# Altium schematic symbol library PoESP_ConnectorBoard.SchLib: 10 symbols
Pins are listed as number, name and electrical type; pins without a type are passive.

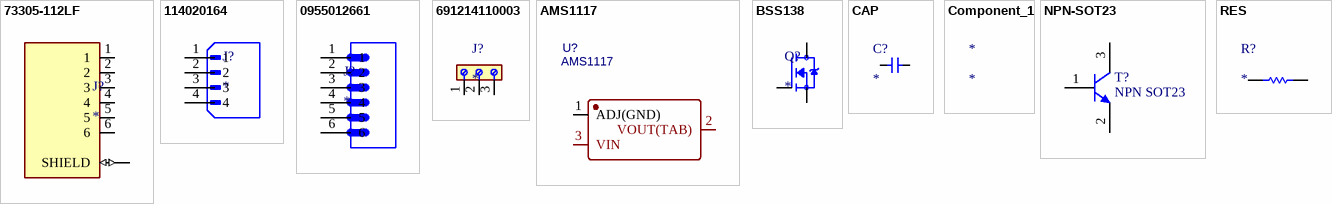
[diagram p0: symbols 73305-112LF to RES]

## 73305-112LF
designator J?
RJ45 Modular Jack, Input Output Connectors, CAT 3, Standard, 6P4C, Right Angle, Surface Mount, without Shield, 1 Port.; MF: Amphenol ICC (FCI); MP: 73305-112LF; SnapEDA_Link: https://www.snapeda.com/parts/73305-112LF/Amphenol+FCI/view-part/?ref=snap; Package: None; Value: *; Check_prices: https://www.snapeda.com/parts/73305-112LF/Amphenol+FCI/view-part/?ref=eda
footprint AMPHENOL_73305-112LF
pins: 1, 2, 3, 4, 5, 6, S1 SHIELD (io), S2 SHIELD (io)

## 114020164
designator J?
GROVE FEMALE HEADER R/A 20PACK; MF: Seeed Technology Co., Ltd; MP: 114020164; SnapEDA_Link: https://www.snapeda.com/parts/114020164/Seeed+Technology+Co.%252C+Ltd/view-part/?ref=snap; Package: None; Value: *; Check_prices: https://www.snapeda.com/parts/114020164/Seeed+Technology+Co.%252C+Ltd/view-part/?ref=eda
footprint SEEEDSTUDIO_114020164
pins: 1, 2, 3, 4

## 0955012661
designator J?
Jack Modular Connector 6p6c (RJ11, RJ12, RJ14, RJ25) 90Â° Angle (Right) Unshielded Cat3; MF: Molex; MP: 0955012661; Value: *; Package: None; Check_prices: https://www.snapeda.com/parts/0955012661/Molex/view-part/881426/?ref=eda; SnapEDA_Link: https://www.snapeda.com/parts/0955012661/Molex/view-part/881426/?ref=snap; Price: None; Availability: Unavailable
footprint MOLEX_0955012661
pins: 1, 2, 3, 4, 5, 6

## 691214110003
designator J?
3 Position Wire to Board Terminal Block Horizontal with Board 0.138 (3.50mm) Through Hole; MF: Wurth Elektronik; MP: 691214110003; SnapEDA_Link: https://www.snapeda.com/parts/691214110003/Wurth+Elektronik/view-part/?ref=snap; Package: None; Value: *; Check_prices: https://www.snapeda.com/parts/691214110003/Wurth+Elektronik/view-part/?ref=eda
footprint 691214110003
pins: 1, 2, 3

## AMS1117
designator U?
BOM_Manufacturer: Youtai Semiconductor Co., Ltd.; BOM_Manufacturer Part: AMS1117-3.3; Contributor: LCSC; BOM_Supplier: LCSC; BOM_Supplier Part: C347256; BOM_JLCPCB Part Class: Extended Part; spicePre: U; spiceSymbolName: AMS1117-3.3_C347256
footprint SOT-89
footprint SOT-223 (SOT223, 4-Leads, Body 6.5x3.5mm, Pitch 2.3mm, Lead Span 7mm, IPC Medium Density)
pins: 1 ADJ(GND), 2 VOUT(TAB), 3 VIN

## BSS138
designator Q?
N-Channel 50 V 220mA (Ta) 350mW (Ta) Surface Mount SOT-23-3; MF: onsemi; MP: BSS138; SnapEDA_Link: https://www.snapeda.com/parts/BSS138/Onsemi/view-part/?ref=snap; Package: SOT-23-3 Motorola; Value: *; Check_prices: https://www.snapeda.com/parts/BSS138/Onsemi/view-part/?ref=eda
footprint SOT95P240X111-3N
pins: 1 G, 2 S, 3 D

## CAP
designator C?
LCSC Part NO: *; Manufacturer: *; Manufacturer Part Number: *; Package: *; Value: *; Digikey Part Number: *; Mouser Part Number: *
footprint CAP-0603
pins: 1, 2

## Component_1
designator *

## NPN-SOT23
designator T?, comment value NPN SOT23  (hidden comment: 9013-SOT23)
NPN Bipolar Transistor; Manufacturer_Part_Number: BSR14; Manufacturer: ON SEMICONDUCTOR; Revision: *; ComponentLink1Description: Datasheet; ComponentLink1URL: http://tunmcdsvn.tun.st.com/Component_Datasheet_Library/Trunk/IC/NXP_Transistor_BSR14; Package: SOT23
footprint NPN_SOT23
pins: 1 B, 2 E, 3 C

## RES
designator R?
LCSC Part NO: *; Manufacturer: *; Manufacturer Part Number: *; Package: *; Value: *; Digikey Part Number: *; Mouser Part Number: *
footprint RES-0402
footprint RES-0603
footprint RES-0805-S
footprint RES-1206-S (Chip SMD component 1206; Body 3.2 x 1.6 mm (LxW typ))
footprint RES-1210
footprint RES-2010
footprint RES-2512
pins: 1, 2